# Altium footprint library HDRV12W64P254_2X6_2286X927X889P.PcbLib: 1 footprints
Each footprint in its own frame and in the unit in brackets; x right, y up, seen from the top. Pads: shape width x height; smd on the part's side, far side on the other; paste and mask are expansions set on the pad; w line width, h text height; cw(c..) or ccw(c..) is an arc to the next point about the centre after c.
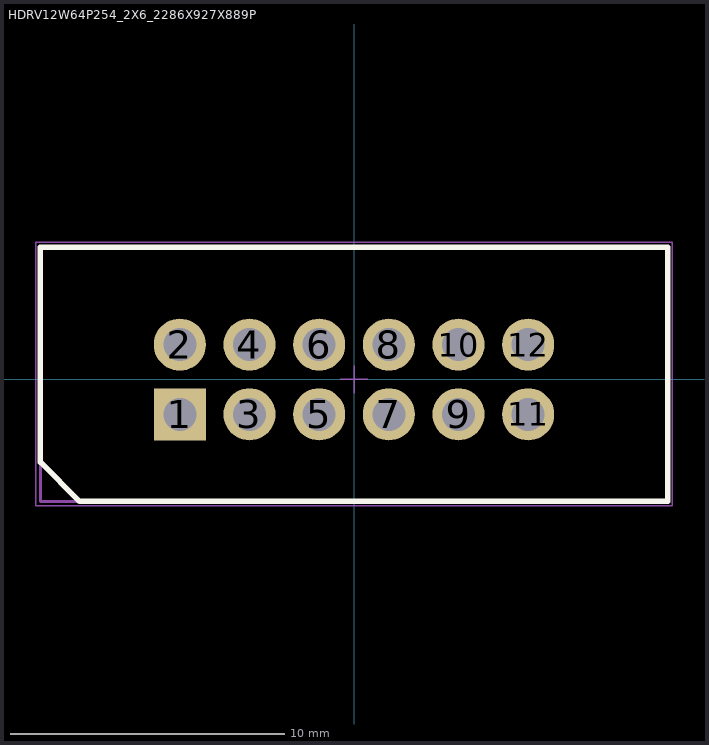
[diagram p0: the footprint, top view; thin cyan lines are the x and y axes]

## HDRV12W64P254_2X6_2286X927X889P [mm]
pads (12):
  rect 1.9x1.9 hole 1.2 unplated: 1(-6.35,-1.27)
  round 1.9 hole 1.2 unplated: 2(-6.35,1.27) 3(-3.81,-1.27) 4(-3.81,1.27) 5(-1.27,-1.27) 6(-1.27,1.27) 7(1.27,-1.27) 8(1.27,1.27) 9(3.81,-1.27) 10(3.81,1.27) 11(6.35,-1.27) 12(6.35,1.27)
Top Overlay:
  lines w0.2: -11.43,-3.015 -11.43,4.826 11.43,4.826 11.43,-4.445 -10,-4.445 -11.43,-3.015
Mechanical 13:
  lines w0.1: -11.43,-4.445 -11.43,4.826 11.43,4.826 11.43,-4.445 -11.43,-4.445
Mechanical 15:
  lines w0.05: -0.5,0 0.5,0 ; 0,-0.5 0,0.5 ; -11.6,-4.6 11.6,-4.6 11.6,5 -11.6,5 -11.6,-4.6
3D body "TST-106-01-G-D.stp": height 8.89, standoff -3.3, extent -11.43,-4.445 11.43,4.826